# EAGLE library part DRV8871 (library ICs)
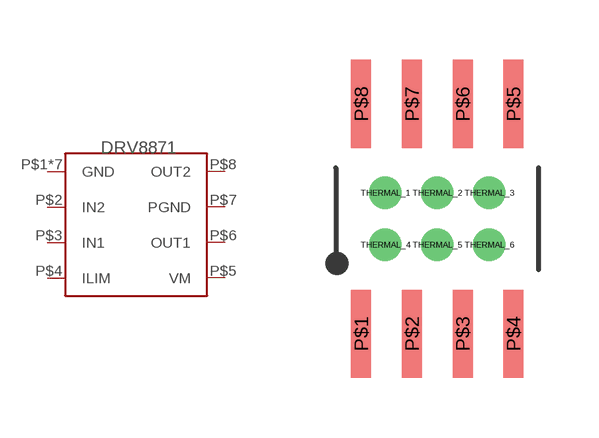
[diagram p0: symbol with the pads of DDA(8-POWERSOIC)_THERAL; footprint DDA(8-POWERSOIC)_THERAL]

Designator prefix U

## DRV8871  [DDA(8-POWERSOIC)_THERAL]
P$1  GND
P$2  IN2
P$3  IN1
P$4  ILIM
P$5  VM
P$6  OUT1
P$7  PGND
P$8  OUT2
THERMAL_1  GND
THERMAL_2  GND
THERMAL_3  GND
THERMAL_4  GND
THERMAL_5  GND
THERMAL_6  GND

## Footprint DDA(8-POWERSOIC)_THERAL (pad centres in mm)
8-PowerSOIC DDA(R-PDSO-G9) (0.154", 3.90mm Width)
smd 0.5 x 2.2: P$1 -1.905,-2.875; P$2 -0.635,-2.875; P$3 0.635,-2.875; P$4 1.905,-2.875; P$5 1.905,2.875; P$6 0.635,2.875; P$7 -0.635,2.875; P$8 -1.905,2.875
drill 0.3: THERMAL_1 -1.3,0.65; THERMAL_2 0,0.65; THERMAL_3 1.3,0.65; THERMAL_4 -1.3,-0.65; THERMAL_5 0,-0.65; THERMAL_6 1.3,-0.65